# Altium schematic symbol library D_DualDiodes_CommonAnode.SchLib: 1 symbol
Pins are listed as number, name and electrical type; pins without a type are passive.

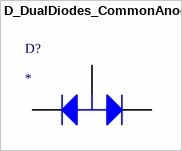
[diagram p0: symbol D_DualDiodes_CommonAnode]

## D_DualDiodes_CommonAnode
designator D?
pins: 1, 2, 3